# EAGLE library part MH_07X01A (library Parts)
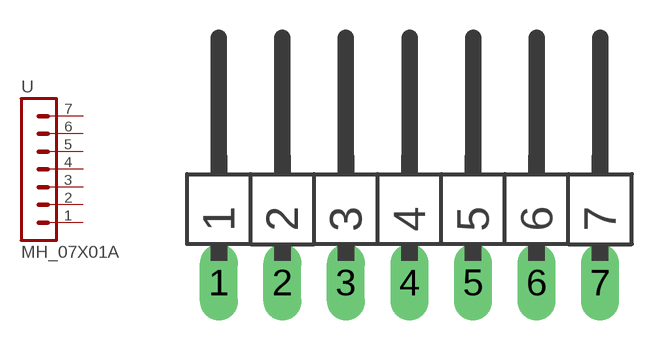
[diagram p1: symbol with the pads of MH_07X01A; footprint MH_07X01A]

Designator prefix -

## MH_07X01A  [MH_07X01A]
1  1  pas
2  2  pas
3  3  pas
4  4  pas
5  5  pas
6  6  pas
7  7  pas

## Footprint MH_07X01A (pad centres in mm)
PIN HEADER
drill 1.016 long: 1 -8.89,0; 2 -6.35,0; 3 -3.81,0; 4 -1.27,0; 5 1.27,0; 6 3.81,0; 7 6.35,0